# Altium footprint library 0.5间距24芯FPC座B.PcbLib: 1 footprints
Each footprint in its own frame and in the unit in brackets; x right, y up, seen from the top. Pads: shape width x height; smd on the part's side, far side on the other; paste and mask are expansions set on the pad; w line width, h text height; cw(c..) or ccw(c..) is an arc to the next point about the centre after c.
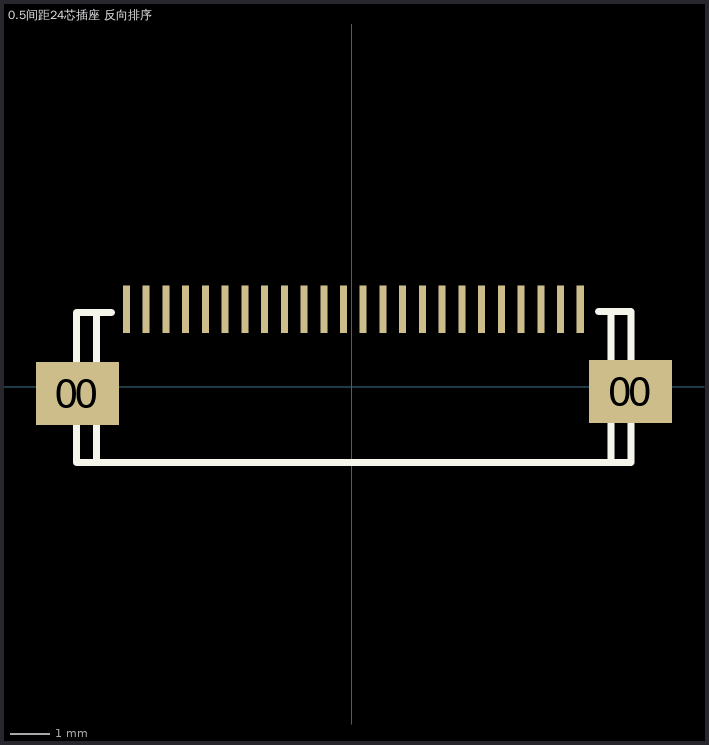
[diagram p0: the footprint, top view; thin cyan lines are the x and y axes]

## 0.5间距24芯插座 反向排序 [mm]
pads (28):
  rect 1.6x1.6 smd: 0(-7.214,-0.178) 0(-6.706,-0.178) 0(6.807,-0.127) 0(7.315,-0.127)
  rect 0.178x1.2 smd: 1(5.785,1.956) 2(5.285,1.956) 3(4.785,1.956) 4(4.285,1.956) 5(3.785,1.956) 6(3.285,1.956) 7(2.785,1.956) 8(2.285,1.956) 9(1.785,1.956) 10(1.285,1.956) 11(0.785,1.956) 12(0.285,1.956) 13(-0.215,1.956) 14(-0.715,1.956) 15(-1.215,1.956) 16(-1.715,1.956) 17(-2.215,1.956) 18(-2.715,1.956) 19(-3.215,1.956) 20(-3.715,1.956) 21(-4.215,1.956) 22(-4.715,1.956) 23(-5.215,1.956) 24(-5.715,1.956)
Top Overlay:
  lines w0.178: -6.479,-1.92 -6.479,1.88 ; -6.096,1.88 -6.987,1.88 -6.987,-1.92 -0.924,-1.92 ; -4.472,-1.92 1.59,-1.92 ; -1.475,-1.92 4.588,-1.92 ; 1.014,-1.92 7.077,-1.92 7.077,1.897 6.248,1.897 ; 6.569,-1.92 6.569,1.897